# Altium footprint library FTS-110-02-X-DV.PcbLib: 1 footprints
Each footprint in its own frame and in the unit in brackets; x right, y up, seen from the top. Pads: shape width x height; smd on the part's side, far side on the other; paste and mask are expansions set on the pad; w line width, h text height; cw(c..) or ccw(c..) is an arc to the next point about the centre after c.
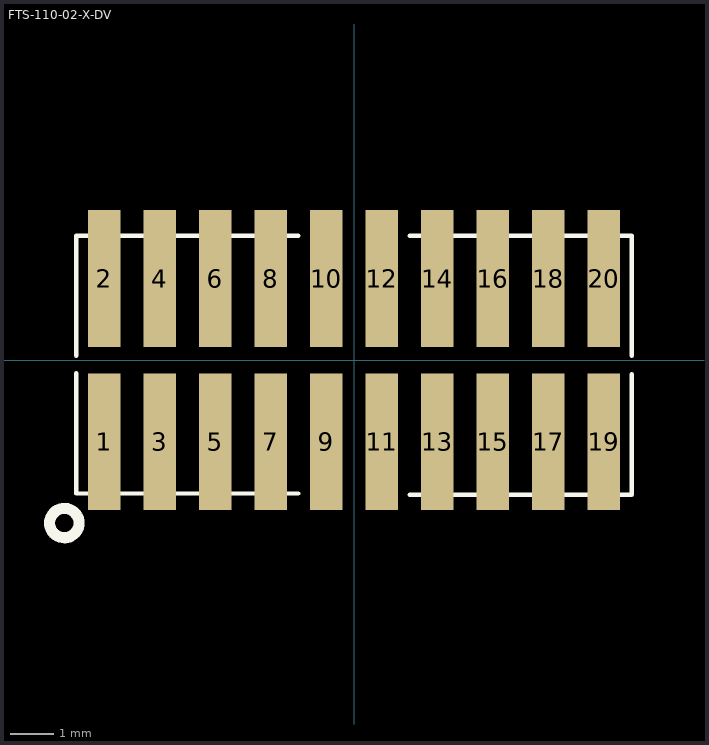
[diagram p0: the footprint, top view; thin cyan lines are the x and y axes]

## FTS-110-02-X-DV [mm]
pads (20):
  rect 0.74x3.125 smd: 1(-5.715,-1.867) 2(-5.715,1.867) 3(-4.445,-1.867) 4(-4.445,1.867) 5(-3.175,-1.867) 6(-3.175,1.867) 7(-1.905,-1.867) 8(-1.905,1.867) 9(-0.635,-1.867) 10(-0.635,1.867) 11(0.635,-1.867) 12(0.635,1.867) 13(1.905,-1.867) 14(1.905,1.867) 15(3.175,-1.867) 16(3.175,1.867) 17(4.445,-1.867) 18(4.445,1.867) 19(5.715,-1.867) 20(5.715,1.867)
Top Overlay:
  circle w0.254: c-6.625,-3.725 r0.336
  lines w0.1: -6.35,-0.3 -6.35,-3.05 -1.275,-3.05 ; -6.35,0.1 -6.35,2.85 -1.275,2.85 ; 1.275,-3.075 6.35,-3.075 6.35,-0.325 ; 1.275,2.85 6.35,2.85 6.35,0.1
3D body "FTS-110-01-L-DV.step": height 4.28, standoff -0.04, extent -6.35,-3.025 6.35,2.817